# Altium schematic symbol library Interface_HID.SchLib: 5 symbols
Pins are listed as number, name and electrical type; pins without a type are passive.

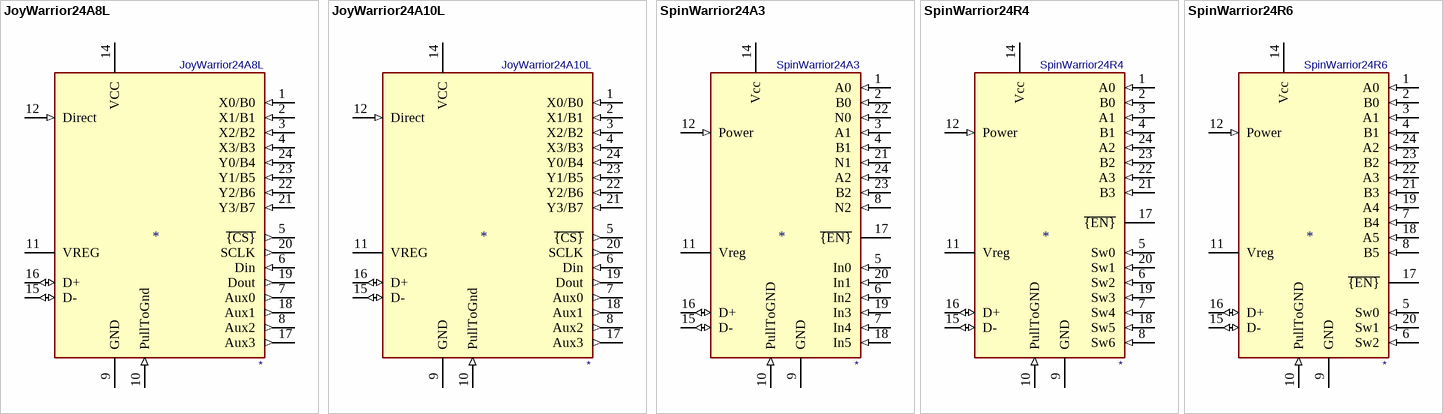
[diagram p0: symbols JoyWarrior24A8L to SpinWarrior24R6]

## JoyWarrior24A8L
designator *  value JoyWarrior24A8L
ki_keywords: joystick controller, 8 bit, 4 axis; ki_description: JoyWarrior 8bit, 4 axis, joystick controller, DIP-24/SOIC-24; ki_fp_filters: SOIC*7.5x15.4mm*P1.27mm* DIP*7.62mm*; Supplier: http://codemercs.com/downloads/joywarrior/JW_Datasheet.pdf
pins: 1 X0/B0 (in), 2 X1/B1 (in), 3 X2/B2 (in), 4 X3/B3 (in), 5 ~{{CS}} (out), 6 Din (in), 7 Aux0 (out), 8 Aux2 (out), 9 GND (power), 10 PullToGnd (in), 11 VREG (power), 12 Direct (in), 13 NC (in) hidden, 14 VCC (power), 15 D- (io), 16 D+ (io), 17 Aux3 (out), 18 Aux1 (out), 19 Dout (out), 20 SCLK (out), 21 Y3/B7 (in), 22 Y2/B6 (in), 23 Y1/B5 (in), 24 Y0/B4 (in)

## JoyWarrior24A10L
designator *  value JoyWarrior24A10L
ki_keywords: joystick controller, 10bit, 3 axis; ki_description: JoyWarrior 10bit, 3 axis, joystick controller, DIP-24/SOIC-24; ki_fp_filters: SOIC*7.5x15.4mm*P1.27mm* DIP*7.62mm*; Supplier: http://codemercs.com/downloads/joywarrior/JW_Datasheet.pdf
pins: 1 X0/B0 (in), 2 X1/B1 (in), 3 X2/B2 (in), 4 X3/B3 (in), 5 ~{{CS}} (out), 6 Din (in), 7 Aux0 (out), 8 Aux2 (out), 9 GND (power), 10 PullToGnd (in), 11 VREG (power), 12 Direct (in), 13 NC (in) hidden, 14 VCC (power), 15 D- (io), 16 D+ (io), 17 Aux3 (out), 18 Aux1 (out), 19 Dout (out), 20 SCLK (out), 21 Y3/B7 (in), 22 Y2/B6 (in), 23 Y1/B5 (in), 24 Y0/B4 (in)

## SpinWarrior24A3
designator *  value SpinWarrior24A3
ki_keywords: 16bit, absolute position, USB, rotary encoder; ki_description: SpinWarrior, 3 16bit absolute position rotary encoders, 6 digital inputs, DIP-24/SOIC-24; ki_fp_filters: DIP*7.62mm* SOIC*7.5x15.4mm*P1.27mm*; Supplier: http://www.codemercs.com/downloads/spinwarrior/SW_Datasheet.pdf
pins: 1 A0 (in), 2 B0 (in), 3 A1 (in), 4 B1 (in), 5 In0 (in), 6 In2 (in), 7 In4 (in), 8 N2 (in), 9 GND (power), 10 PullToGND (in), 11 Vreg (power), 12 Power (in), 13 NC (in) hidden, 14 Vcc (power), 15 D- (io), 16 D+ (io), 17 ~{{EN}} (oc), 18 In5 (in), 19 In3 (in), 20 In1 (in), 21 N1 (in), 22 N0 (in), 23 B2 (in), 24 A2 (in)

## SpinWarrior24R4
designator *  value SpinWarrior24R4
ki_keywords: 8bit, relative position, USB, rotary encoder; ki_description: SpinWarrior, 4 8bit relative position rotary encoders, 7 switches, DIP-24/SOIC-24; ki_fp_filters: DIP*7.62mm* SOIC*7.5x15.4mm*P1.27mm*; Supplier: http://www.codemercs.com/downloads/spinwarrior/SW_Datasheet.pdf
pins: 1 A0 (in), 2 B0 (in), 3 A1 (in), 4 B1 (in), 5 Sw0 (in), 6 Sw2 (in), 7 Sw4 (in), 8 Sw6 (in), 9 GND (power), 10 PullToGND (in), 11 Vreg (power), 12 Power (in), 13 NC (in) hidden, 14 Vcc (power), 15 D- (io), 16 D+ (io), 17 ~{{EN}} (oc), 18 Sw5 (in), 19 Sw3 (in), 20 Sw1 (in), 21 B3 (in), 22 A3 (in), 23 B2 (in), 24 A2 (in)

## SpinWarrior24R6
designator *  value SpinWarrior24R6
ki_keywords: 8bit, relative position, USB, rotary encoder; ki_description: SpinWarrior, 6 8bit relative position rotary encoders, 3 switches, DIP-24/SOIC-24; ki_fp_filters: DIP*7.62mm* SOIC*7.5x15.4mm*P1.27mm*; Supplier: http://www.codemercs.com/downloads/spinwarrior/SW_Datasheet.pdf
pins: 1 A0 (in), 2 B0 (in), 3 A1 (in), 4 B1 (in), 5 Sw0 (in), 6 Sw2 (in), 7 B4 (in), 8 B5 (in), 9 GND (power), 10 PullToGND (in), 11 Vreg (power), 12 Power (in), 13 NC (in) hidden, 14 Vcc (power), 15 D- (io), 16 D+ (io), 17 ~{{EN}} (oc), 18 A5 (in), 19 A4 (in), 20 Sw1 (in), 21 B3 (in), 22 A3 (in), 23 B2 (in), 24 A2 (in)